# Altium integrated library 2 Pin 2Pos THT BergeStick 2.54MM Amphenol68000-402HLF.IntLib: 1 symbol
Pins are listed as number, name and electrical type; pins without a type are passive.

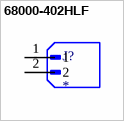
[diagram p0: symbol 68000-402HLF]

## 68000-402HLF
designator J?
MP: 68000-402HLF; Package: None; Price: None; Value: *; Availability: Unavailable
footprint AMPHENOL_68000-402HLF
pins: 1, 2